# Altium schematic symbol library 3_way_triangular_solder_jumper_pad.SchLib: 1 symbol
Pins are listed as number, name and electrical type; pins without a type are passive.

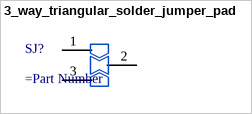
[diagram p0: symbol 3_way_triangular_solder_jumper_pad]

## 3_way_triangular_solder_jumper_pad
designator SJ?
=Description
pins: 1, 2, 3